# Altium footprint library Fiducial, Panel - 2mm, 5mm.PcbLib: 1 footprints
Each footprint in its own frame and in the unit in brackets; x right, y up, seen from the top. Pads: shape width x height; smd on the part's side, far side on the other; paste and mask are expansions set on the pad; w line width, h text height; cw(c..) or ccw(c..) is an arc to the next point about the centre after c.
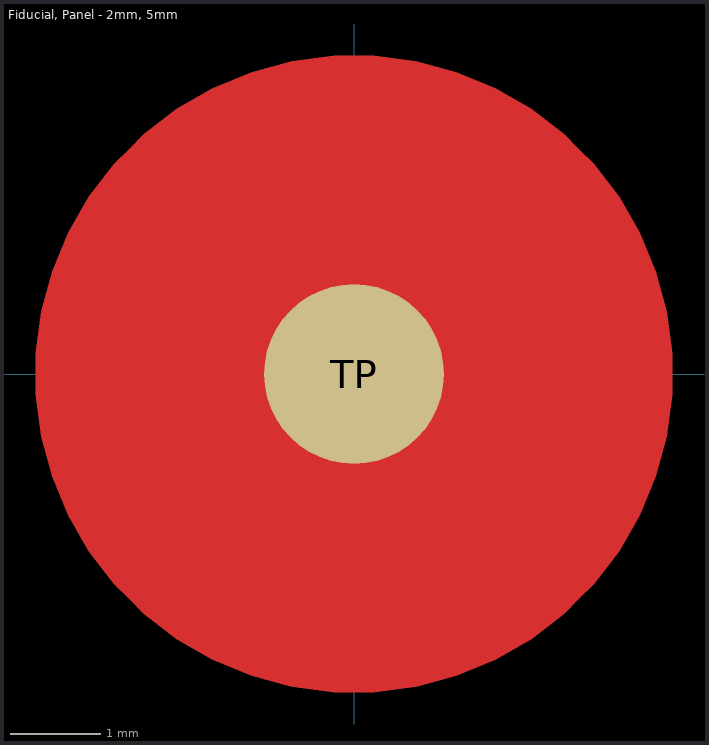
[diagram p0: the footprint, top view; thin cyan lines are the x and y axes]

## Fiducial, Panel - 2mm, 5mm [mm] "Fiducial, Panel - 2mm, 5mm"
pads (1):
  round 2 smd paste+0 mask+1.5: TP(0,0)
Top Layer:
  pour cut-out: 2.5,2.5 2.336,2.664 1.968,2.946 1.567,3.178 1.139,3.355 0.691,3.475 0.232,3.536 -0.232,3.536 -0.691,3.475 -1.139,3.355 -1.567,3.178 -1.968,2.946 -2.336,2.664 -2.5,2.5 -2.664,2.336 -2.946,1.968 -3.178,1.567 -3.355,1.139 -3.475,0.691 -3.536,0.232 -3.536,-0.232 -3.475,-0.691 -3.355,-1.139 -3.178,-1.567 -2.946,-1.968 -2.664,-2.336 -2.5,-2.5 -2.336,-2.664 -1.968,-2.946 -1.567,-3.178 -1.139,-3.355 -0.691,-3.475 -0.232,-3.536 0.232,-3.536 0.691,-3.475 1.139,-3.355 1.567,-3.178 1.968,-2.946 2.336,-2.664 2.5,-2.5 2.664,-2.336 2.946,-1.968 3.178,-1.567 3.355,-1.139 3.475,-0.691 3.536,-0.232 3.536,0.232 3.475,0.691 3.355,1.139 3.178,1.567 2.946,1.968 2.664,2.336